# Altium schematic symbol library MECH,STANDOFF,ID3.3MM,H4MM,SMD.Schlib: 1 symbol
Pins are listed as number, name and electrical type; pins without a type are passive.

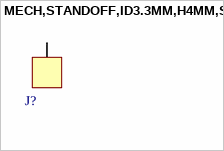
[diagram p0: symbol MECH,STANDOFF,ID3.3MM,H4MM,SMD]

## MECH,STANDOFF,ID3.3MM,H4MM,SMD
designator J?
pins: 0 PIN